# Altium schematic symbol library LP5569.SchLib: 1 symbol
Pins are listed as number, name and electrical type; pins without a type are passive.

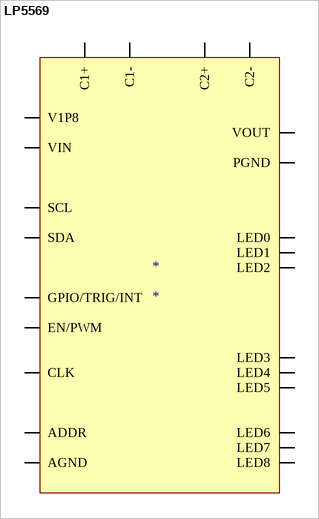
[diagram p0: symbol LP5569]

## LP5569
designator *
footprint WQFN24
pins: 1 C2+, 2 C1+, 3 VIN, 4 AGND, 5 EN/PWM, 6 CLK, 7 GPIO/TRIG/INT, 8 SDA, 9 SCL, 10 V1P8, 11 LED8, 12 LED7, 13 LED6, 14 LED5, 15 LED4, 16 LED3, 17 LED2, 18 LED1, 19 LED0, 20 ADDR, 21 PGND, 22 VOUT, 23 C2-, 24 C1-